# EAGLE library part AL5WN-K (library AL5WN-K)
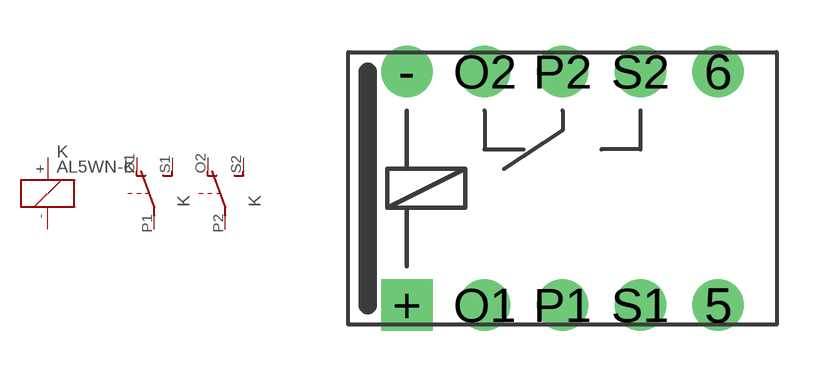
[diagram p0: symbol with the pads of AL5WN-K; footprint AL5WN-K]

Designator prefix K; gates G$1=K G$2=U2 G$3=U2

## AL5WN-K  [AL5WN-K]
+  G$1:+  pas
-  G$1:-  pas
O1  G$2:O  pas
O2  G$3:O  pas
P1  G$2:P  pas
P2  G$3:P  pas
S1  G$2:S  pas
S2  G$3:S  pas

## Footprint AL5WN-K (pad centres in mm)
drill 0.6 pad 1.676: 5 5.08,-3.81; 6 5.08,3.81; - -5.08,3.81; O1 -2.54,-3.81; O2 -2.54,3.81; P1 0,-3.81; P2 0,3.81; S1 2.54,-3.81; S2 2.54,3.81
drill 0.6 pad 1.676 square: + -5.08,-3.81